# EAGLE library part *4046 (library digital)
xx4046: PLL Phase-locked loop
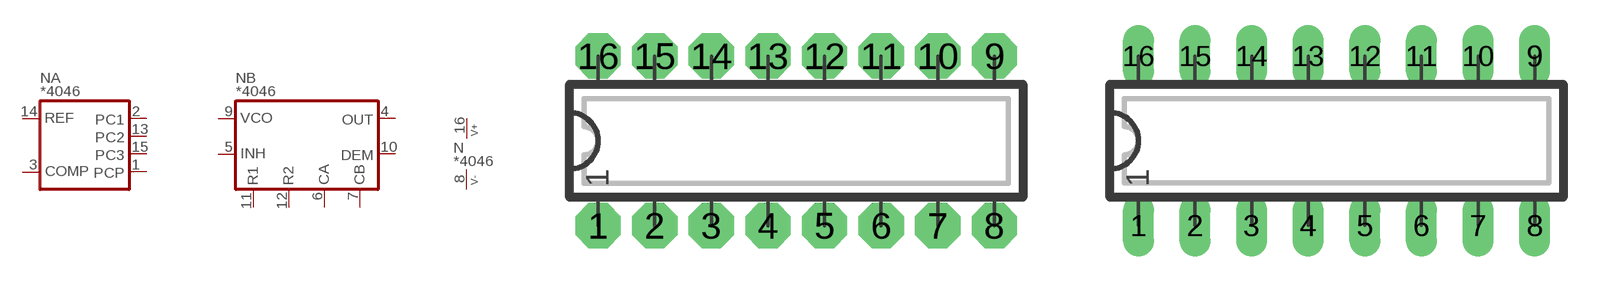
[diagram p9: symbol with the pads of DIP16N; footprints DIP16N, DIP16L]

Designator prefix N; gates A=PLLCMP_1 B=PLLVCO_1 P=V+-

## 4046N, 74HC4046N, 74HCT4046N  [DIP16N]
1  A:PCP  out
2  A:PC1  out
3  A:COMP  in
4  B:OUT  out
5  B:INH  in
6  B:CA
7  B:CB
8  P:V-  pwr
9  B:VCO  in
10  B:DEM  out
11  B:R1
12  B:R2
13  A:PC2  out
14  A:REF  in
15  A:PC3  out
16  P:V+  pwr

## 4046, 74HC4046, 74HCT4046  [DIP16L]
Pads as for DIP16N

## 4046L, 74HC4046L, 74HCT4046L  [DIP16L]
Pads as for DIP16N

## 4046R, 74HC4046R, 74HCT4046R  [DIP16R]
Pads as for DIP16N

## 74HC4046S, 74HCT4046S  [SO16]
Pads as for DIP16N

## Footprint DIP16N (pad centres in mm)
DIP-16 Standard IC package, 16 pins
drill 0.813 pad 2.032 octagon: 1 0,0; 2 2.54,0; 3 5.08,0; 4 7.62,0; 5 10.16,0; 6 12.7,0; 7 15.24,0; 8 17.78,0; 9 17.78,7.62; 10 15.24,7.62; 11 12.7,7.62; 12 10.16,7.62; 13 7.62,7.62; 14 5.08,7.62; 15 2.54,7.62; 16 0,7.62

## Footprint DIP16L (pad centres in mm)
DIP-16, long pads Standard IC package, 16 pins
drill 0.813 pad 1.397 long: 1 0,0; 2 2.54,0; 3 5.08,0; 4 7.62,0; 5 10.16,0; 6 12.7,0; 7 15.24,0; 8 17.78,0; 9 17.78,7.62; 10 15.24,7.62; 11 12.7,7.62; 12 10.16,7.62; 13 7.62,7.62; 14 5.08,7.62; 15 2.54,7.62; 16 0,7.62

## Footprint DIP16R (pad centres in mm)
DIP-16, reduced pads Standard IC package, 16 pins
drill 0.813 pad 1.397 square: 1 0,0; 2 2.54,0; 3 5.08,0; 4 7.62,0; 5 10.16,0; 6 12.7,0; 7 15.24,0; 8 17.78,0; 9 17.78,7.62; 10 15.24,7.62; 11 12.7,7.62; 12 10.16,7.62; 13 7.62,7.62; 14 5.08,7.62; 15 2.54,7.62; 16 0,7.62

## Footprint SO16 (pad centres in mm)
SO-16, SMD SOIC IC package, 16 pins
smd 0.635 x 1.778: 1 -4.445,-2.857; 2 -3.175,-2.857; 3 -1.905,-2.857; 4 -0.635,-2.857; 5 0.635,-2.857; 6 1.905,-2.857; 7 3.175,-2.857; 8 4.445,-2.857; 9 4.445,2.857; 10 3.175,2.857; 11 1.905,2.857; 12 0.635,2.857; 13 -0.635,2.857; 14 -1.905,2.857; 15 -3.175,2.857; 16 -4.445,2.857